# EAGLE library part MAX38902AATA+ (library MAX38902AATA_)
None Check availability <https://pricing.snapeda.com/parts/MAX38902AATA%2B/Maxim%20Integrated/view-part?ref=eda>
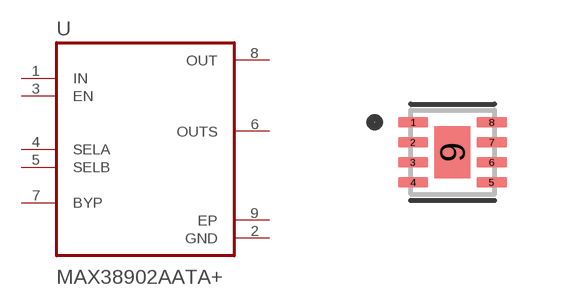
[diagram p0: symbol with the pads of SON50P200X200X80-9N; footprint SON50P200X200X80-9N]

Designator prefix U

## MAX38902AATA+ (Availability: In Stock; Description: Linear Voltage Regulator IC Positive Adjustable 1 Output 500mA 8-TDFN-EP (2x2); MF: Maxim Integrated; MP: MAX38902AATA+; Package: TDFN-8 Maxim; Price: None; Purchase-URL: https://pricing.snapeda.com/search/part/MAX38902AATA+/?ref=eda)  [SON50P200X200X80-9N]
1  IN  in
2  GND  pwr
3  EN  in
4  SELA  in
5  SELB  in
6  OUTS
7  BYP  in
8  OUT  out
9  EP  pwr

## Footprint SON50P200X200X80-9N (pad centres in mm)
smd 0.76 x 0.27: 1 -0.985,0.75; 2 -0.985,0.25; 3 -0.985,-0.25; 4 -0.985,-0.75; 5 0.985,-0.75; 6 0.985,-0.25; 7 0.985,0.25; 8 0.985,0.75
smd 0.9 x 1.3: 9 0,0